# Altium schematic symbol library supply1.SCHLIB: 5 symbols
Pins are listed as number, name and electrical type; pins without a type are passive.

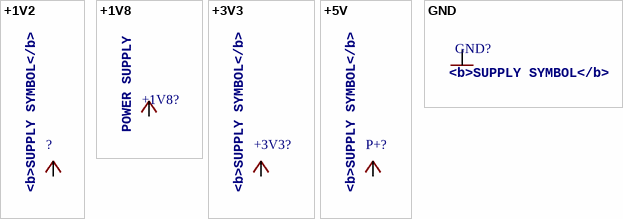
[diagram p0: symbols +1V2 to GND]

## +1V2
designator ?, comment <b>SUPPLY SYMBOL</b>
pins: +1V2 (oe)

## +1V8
designator +1V8?, comment POWER SUPPLY
pins: +1V8 (oe)

## +3V3
designator +3V3?, comment <b>SUPPLY SYMBOL</b>
pins: +3V3 (oe)

## +5V
designator P+?, comment <b>SUPPLY SYMBOL</b>
pins: +5V (oe)

## GND
designator GND?, comment <b>SUPPLY SYMBOL</b>
pins: GND (oe)